# Altium footprint library PcbLib1.PcbLib: 3 footprints
Each footprint in its own frame and in the unit in brackets; x right, y up, seen from the top. Pads: shape width x height; smd on the part's side, far side on the other; paste and mask are expansions set on the pad; w line width, h text height; cw(c..) or ccw(c..) is an arc to the next point about the centre after c.
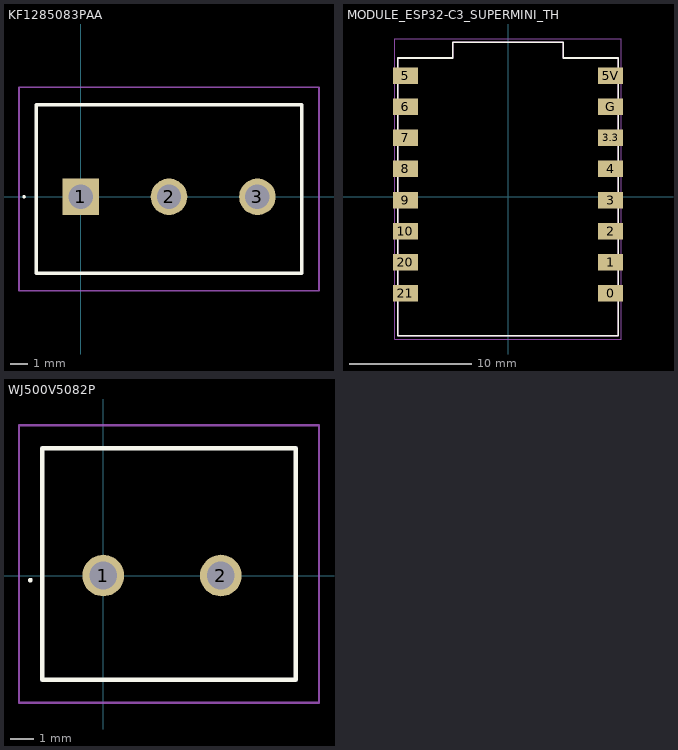
[diagram p0: the footprints below, top view; thin cyan lines are the x and y axes]

## KF1285083PAA [mm]
height 1.4
pads (3):
  rect 2.1x2.1 hole 1.4: 1(0,0)
  round 2.1 hole 1.4: 2(5.08,0) 3(10.16,0)
Top Overlay:
  lines w0.1: -3.3,0 cw(c-3.25,0) -3.2,0 cw(c-3.25,0) -3.3,0
  lines w0.2: -2.54,-4.4 12.7,-4.4 12.7,5.3 -2.54,5.3 -2.54,-4.4
Mechanical 13:
  lines w0.1: -2.54,-4.4 12.7,-4.4 12.7,5.3 -2.54,5.3 -2.54,-4.4
Mechanical 15:
  lines w0.1: -3.54,-5.4 13.7,-5.4 13.7,6.3 -3.54,6.3 -3.54,-5.4
3D body "282837-3.STEP": height 9.79, standoff -3.71, extent -2.413,-4.009 13.427,4.191

## MODULE_ESP32-C3_SUPERMINI_TH [mil]
pads (16):
  rect 80x53 smd: 0(330,-310) 1(330,-210) 2(330,-110) 3(330,-10) 3.3(330,190) 4(330,90) 5(-330,390) 5V(330,390) 6(-330,290) 7(-330,190) 8(-330,90) 9(-330,-10) 10(-330,-110) 20(-330,-210) 21(-330,-310) G(330,290)
Top Overlay:
  lines w5: -354.33,-446.85 354.33,-446.85 354.33,446.85 177.17,446.85 177.17,498.03 -177.17,498.03 -177.17,446.85 -354.33,446.85 -354.33,-446.85
Mechanical 13:
  lines w5: -354.33,-446.85 354.33,-446.85 354.33,446.85 177.17,446.85 177.17,498.03 -177.17,498.03 -177.17,446.85 -354.33,446.85 -354.33,-446.85
Mechanical 15:
  lines w1.97: -364.17,-456.69 364.17,-456.69 364.17,507.87 -364.17,507.87 -364.17,-456.69
3D body "step_temp.STEP": height 163.79, standoff 0, extent -354.33,-446.85 354.33,498.03

## WJ500V5082P [mm]
height 1.4
pads (2):
  round 1.8 hole 1.2: 1(0,0) 2(5.08,0)
Top Overlay:
  lines w0.1: -3.2,-0.2 cw(c-3.15,-0.2) -3.1,-0.2 cw(c-3.15,-0.2) -3.2,-0.2
  lines w0.2: -2.64,-4.5 -2.64,5.5 8.32,5.5 8.32,-4.5 -2.64,-4.5
Mechanical 13:
  lines w0.1: -2.64,-4.5 -2.64,5.5 8.32,5.5 8.32,-4.5 -2.64,-4.5
Mechanical 15:
  lines w0.1: -3.64,-5.5 -3.64,6.5 9.32,6.5 9.32,-5.5 -3.64,-5.5
3D body "282837-2.STEP": height 10, standoff -3.5, extent -2.54,-4.1 8.22,4.1